# Altium schematic symbol library DIODE(Schott, 30V, 200mA, SOT23-3).SchLib: 1 symbol
Pins are listed as number, name and electrical type; pins without a type are passive.

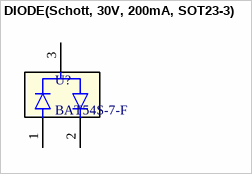
[diagram p0: symbol DIODE(Schott, 30V, 200mA, SOT23-3)]

## DIODE(Schott, 30V, 200mA, SOT23-3)
designator U?, comment BAT54S-7-F
Description; Manufacturer: Diodes Inc; Manufacturer_PN: BAT54S-7-F; Package: SOT23-3; Datasheet: https://www.diodes.com/assets/Datasheets/BAT54_A_C_S.pdf; Digikey_Link: https://www.digikey.it/en/products/detail/diodes-incorporated/BAT54S-7-F/717925
footprint SOT-23_DIO
pins: 1, 2, 3